# EAGLE library part SSM2603 (library uRings_SE_Library)
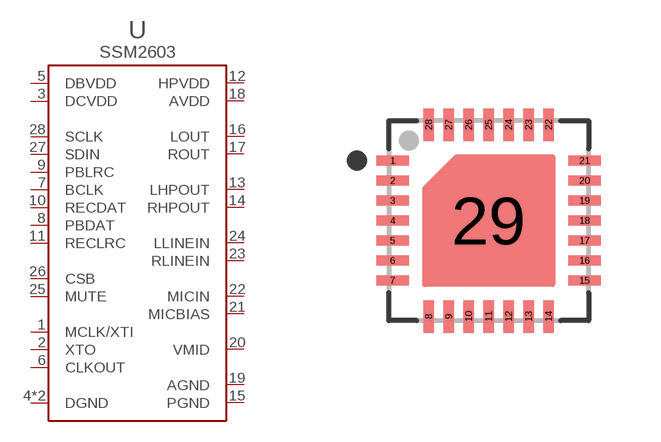
[diagram p7: symbol with the pads of QFN-28; footprint QFN-28]

Designator prefix -

## SSM2603  [QFN-28]
1  MCLK/XTI
2  XTO
3  DCVDD
4  DGND
5  DBVDD
6  CLKOUT
7  BCLK
8  PBDAT
9  PBLRC
10  RECDAT
11  RECLRC
12  HPVDD
13  LHPOUT
14  RHPOUT
15  PGND
16  LOUT
17  ROUT
18  AVDD
19  AGND
20  VMID
21  MICBIAS
22  MICIN
23  RLINEIN
24  LLINEIN
25  MUTE
26  CSB
27  SDIN
28  SCLK
29  DGND

## Footprint QFN-28 (pad centres in mm)
smd 0.813 x 0.254: 1 -2.4,1.5; 2 -2.4,1; 3 -2.4,0.5; 4 -2.4,0; 5 -2.4,-0.5; 6 -2.4,-1; 7 -2.4,-1.5; 15 2.4,-1.5; 16 2.4,-1; 17 2.4,-0.5; 18 2.4,0; 19 2.4,0.5; 20 2.4,1; 21 2.4,1.5
smd 0.254 x 0.813: 8 -1.5,-2.4; 9 -1,-2.4; 10 -0.5,-2.4; 11 0,-2.4; 12 0.5,-2.4; 13 1,-2.4; 14 1.5,-2.4; 22 1.5,2.4; 23 1,2.4; 24 0.5,2.4; 25 0,2.4; 26 -0.5,2.4; 27 -1,2.4; 28 -1.5,2.4
smd 2.45 x 2.45: 29 0,0